# Altium schematic symbol library Connectors.SchLib: 2 symbols
Pins are listed as number, name and electrical type; pins without a type are passive.

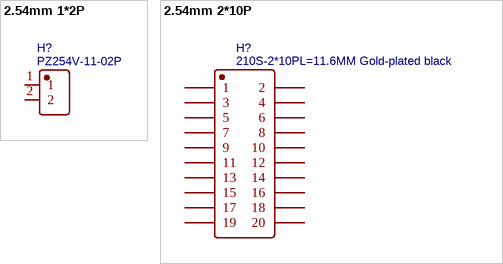
[diagram p0: symbols 2.54mm 1*2P to 2.54mm 2*10P]

## 2.54mm 1*2P
designator H?, comment PZ254V-11-02P
BOM_Manufacturer: XFCN; Contributor: LCSC; SMT Type: Extend; BOM_Supplier: LCSC; BOM_Supplier Part: C492401; BOM_Manufacturer Part: PZ254V-11-02P; BOM_JLCPCB SMD: Yes; spicePre: H; spiceSymbolName: PZ254V-11-02P
footprint HDR-TH_2P-P2.54-V-M
pins: 1, 2

## 2.54mm 2*10P
designator H?, comment 210S-2*10PL=11.6MM Gold-plated black
BOM_Manufacturer: Ckmtw; Contributor: LCSC; SMT Type: Extend; BOM_Supplier: LCSC; BOM_Manufacturer Part: 210S-2*10PL=11.6MM Gold-plated black; BOM_Supplier Part: C124359; BOM_JLCPCB SMD: Yes; spicePre: H; spiceSymbolName: 210S-2*10PL=11.6MM Gold-plated black
footprint HDR-TH_20P-P2.54-V-M-R2-C10-S2.54
pins: 1, 2, 3, 4, 5, 6, 7, 8, 9, 10, 11, 12, 13, 14, 15, 16, 17, 18, 19, 20